# Altium schematic symbol library SCH - MCU - NUVOTON - NUVOTON NUC200LC2AN.SchLib: 1 symbol
Pins are listed as number, name and electrical type; pins without a type are passive.

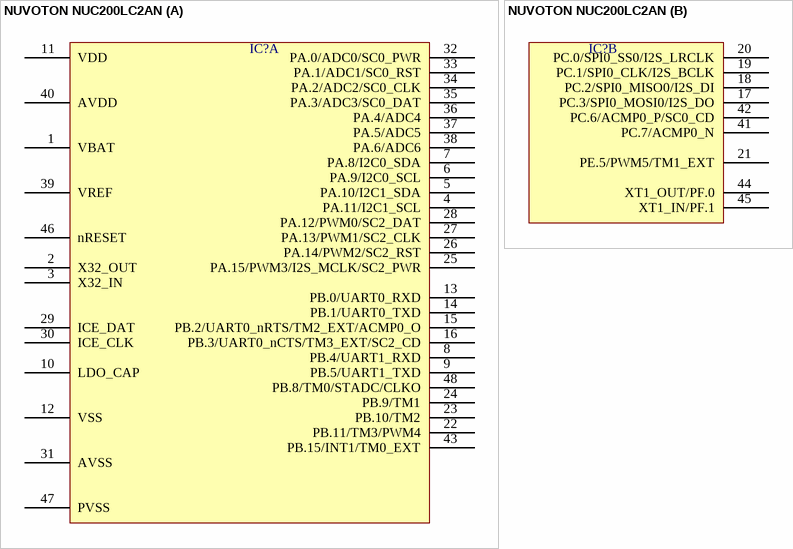
[diagram p0: symbol NUVOTON NUC200LC2AN]

## NUVOTON NUC200LC2AN
designator IC?  (value not drawn)
part A pins: 1 VBAT, 2 X32_OUT, 3 X32_IN, 4 PA.11/I2C1_SCL, 5 PA.10/I2C1_SDA, 6 PA.9/I2C0_SCL, 7 PA.8/I2C0_SDA, 8 PB.4/UART1_RXD, 9 PB.5/UART1_TXD, 10 LDO_CAP, 11 VDD, 12 VSS, 13 PB.0/UART0_RXD, 14 PB.1/UART0_TXD, 15 PB.2/UART0_nRTS/TM2_EXT/ACMP0_O, 16 PB.3/UART0_nCTS/TM3_EXT/SC2_CD, 22 PB.11/TM3/PWM4, 23 PB.10/TM2, 24 PB.9/TM1, 25 PA.15/PWM3/I2S_MCLK/SC2_PWR, 26 PA.14/PWM2/SC2_RST, 27 PA.13/PWM1/SC2_CLK, 28 PA.12/PWM0/SC2_DAT, 29 ICE_DAT, 30 ICE_CLK, 31 AVSS, 32 PA.0/ADC0/SC0_PWR, 33 PA.1/ADC1/SC0_RST, 34 PA.2/ADC2/SC0_CLK, 35 PA.3/ADC3/SC0_DAT, 36 PA.4/ADC4, 37 PA.5/ADC5, 38 PA.6/ADC6, 39 VREF, 40 AVDD, 43 PB.15/INT1/TM0_EXT, 46 nRESET, 47 PVSS, 48 PB.8/TM0/STADC/CLKO
part B pins: 17 PC.3/SPI0_MOSI0/I2S_DO, 18 PC.2/SPI0_MISO0/I2S_DI, 19 PC.1/SPI0_CLK/I2S_BCLK, 20 PC.0/SPI0_SS0/I2S_LRCLK, 21 PE.5/PWM5/TM1_EXT, 41 PC.7/ACMP0_N, 42 PC.6/ACMP0_P/SC0_CD, 44 XT1_OUT/PF.0, 45 XT1_IN/PF.1